# EAGLE library part MAX7219CNG (library MlabPaja)
LED DISPLAY DRIVER
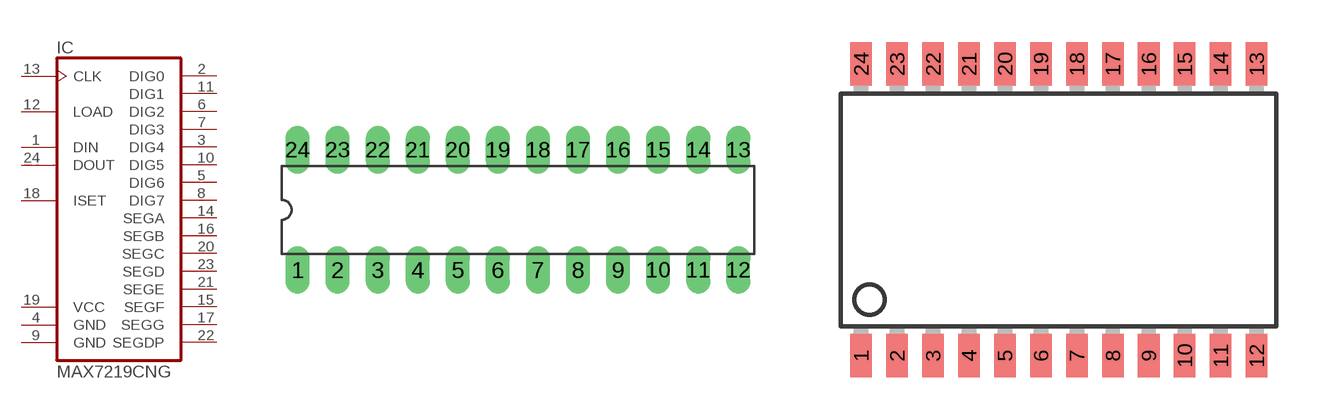
[diagram p2: symbol with the pads of DIL24-3; footprints DIL24-3, SO24]

Designator prefix IC

## MAX7219CNGDIP  [DIL24-3]
1  DIN  in
2  DIG0  out
3  DIG4  out
4  GND  pwr
5  DIG6  out
6  DIG2  out
7  DIG3  out
8  DIG7  out
9  GND  pwr
10  DIG5  out
11  DIG1  out
12  LOAD  in
13  CLK  in
14  SEGA  out
15  SEGF  out
16  SEGB  out
17  SEGG  out
18  ISET  in
19  VCC  pwr
20  SEGC  out
21  SEGE  out
22  SEGDP  out
23  SEGD  out
24  DOUT  out

## MAX7219CNGSO  [SO24]
Pads as for DIL24-3

## Footprint DIL24-3 (pad centres in mm)
Dual In Line Package 0.3 inch
drill 1 long: 1 -12.7,-2.54; 2 -10.16,-2.54; 3 -7.62,-2.54; 4 -5.08,-2.54; 5 -2.54,-2.54; 6 0,-2.54; 7 2.54,-2.54; 8 5.08,-2.54; 9 7.62,-2.54; 10 10.16,-2.54; 11 12.7,-2.54; 12 15.24,-2.54; 13 15.24,5.08; 14 12.7,5.08; 15 10.16,5.08; 16 7.62,5.08; 17 5.08,5.08; 18 2.54,5.08; 19 0,5.08; 20 -2.54,5.08; 21 -5.08,5.08; 22 -7.62,5.08; 23 -10.16,5.08; 24 -12.7,5.08

## Footprint SO24 (pad centres in mm)
Small Outline Package
smd 0.762 x 1.524: 1 -6.985,-5.156; 2 -5.715,-5.156; 3 -4.445,-5.156; 4 -3.175,-5.156; 5 -1.905,-5.156; 6 -0.635,-5.156; 7 0.635,-5.156; 8 1.905,-5.156; 9 3.175,-5.156; 10 4.445,-5.156; 11 5.715,-5.156; 12 6.985,-5.156; 13 6.985,5.156; 14 5.715,5.156; 15 4.445,5.156; 16 3.175,5.156; 17 1.905,5.156; 18 0.635,5.156; 19 -0.635,5.156; 20 -1.905,5.156; 21 -3.175,5.156; 22 -4.445,5.156; 23 -5.715,5.156; 24 -6.985,5.156